# Altium footprint library TL3300DF260Q.PcbLib: 1 footprints
Each footprint in its own frame and in the unit in brackets; x right, y up, seen from the top. Pads: shape width x height; smd on the part's side, far side on the other; paste and mask are expansions set on the pad; w line width, h text height; cw(c..) or ccw(c..) is an arc to the next point about the centre after c.
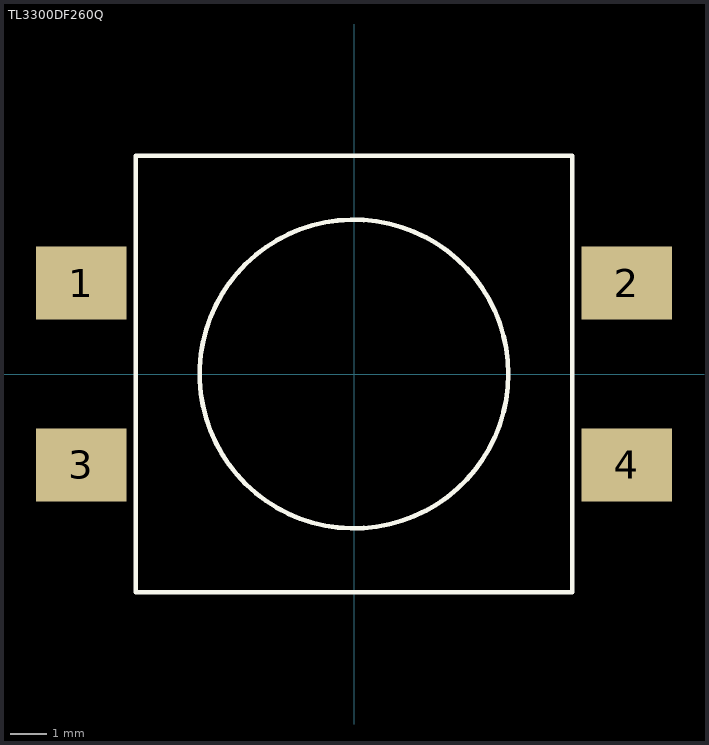
[diagram p0: the footprint, top view; thin cyan lines are the x and y axes]

## TL3300DF260Q [mm]
pads (4):
  rect 2.5x2 smd: 1(-7.5,2.5) 2(7.5,2.5) 3(-7.5,-2.5) 4(7.5,-2.5)
Top Overlay:
  circle w0.127: c0,0 r4.245
  lines w0.127: -6,-6 -6,6 6,6 6,-6 -6,-6
3D body "step_temp.STEP": height 4.63, standoff 0.03, extent -7.5,-5.969 7.5,6.031